# Altium integrated library Transistor.IntLib: 3457 symbols (part 51 of 78)
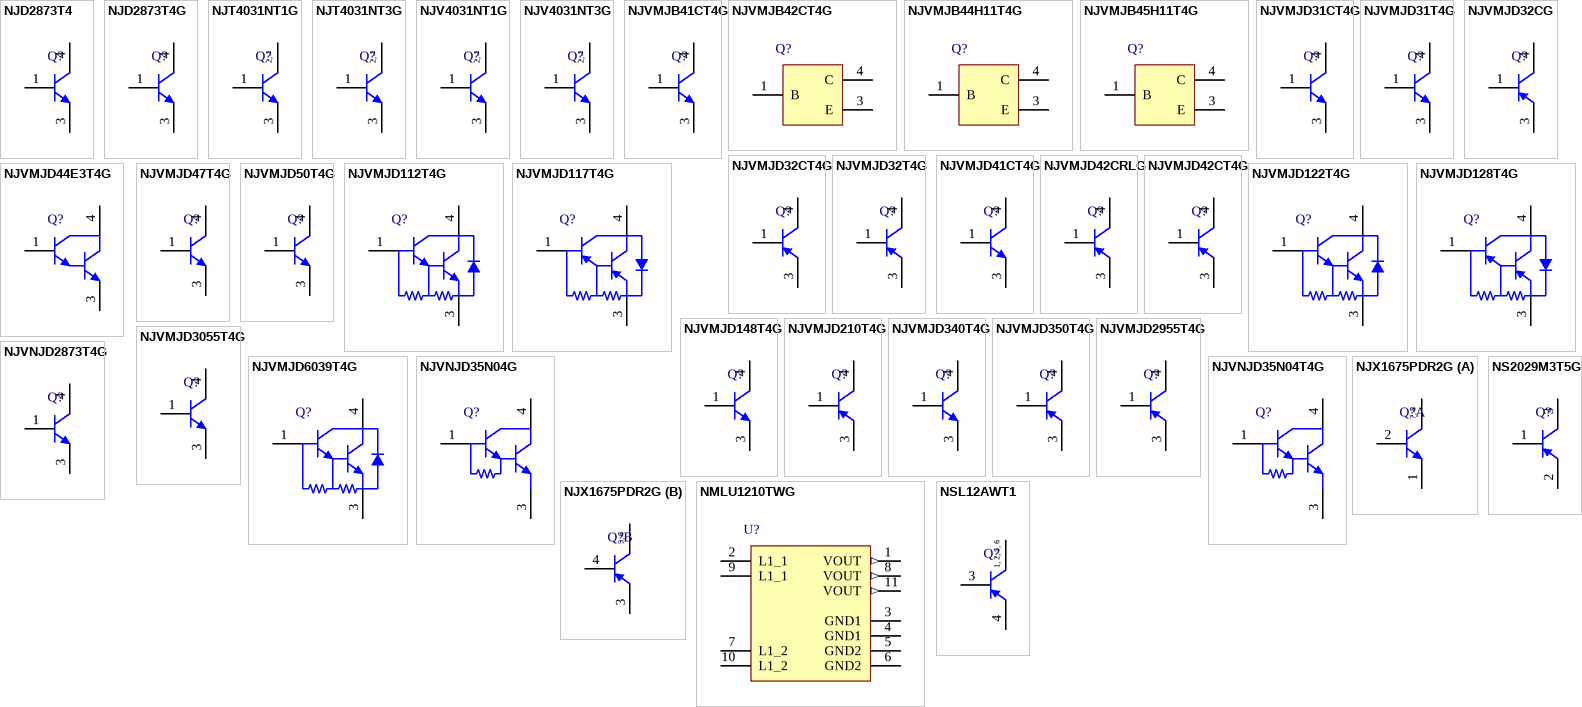
[diagram p144: symbols NJD2873T4 to NSL12AWT1]

## NJVMJD350T4G
designator Q?
High Voltage Power Transistor, 3-Pin DPAK, Pb-Free, Tape and Reel; Manufacturer: On Semiconductor; PartNumber: NJVMJD350T4G; fT Min (MHz): 10; IC Continuous (A): 0.5; Polarity: PNP; DatasheetVersion: Rev. 11; PackageVersion: Rev. E, 02/2014; PackageReference: DPAK-3-369C-01; PackageDescription: 3-Pin Flange Mount, Body 6.54 x 6.095 mm, Pitch 2.29 mm; Supplier 1: Digi-Key; Supplier Part Number 1: NJVMJD350T4G-ND; Supplier 2: Mouser; Supplier Part Number 2: 863-NJVMJD350T4G; Packing: Tape and Reel; RoHS: TRUE; Mounting Technology: Surface Mount; ComponentLink1Description: Manufacturer URL; ComponentLink1URL: http://www.onsemi.com/; ComponentLink2Description: Datasheet; ComponentLink2URL: http://www.onsemi.cn/pub_link/Collateral/MJD340-D.PDF; ComponentLink3Description: Package Specification; ComponentLink3URL: http://www.onsemi.cn/pub_link/Collateral/369C.PDF
footprint ONSC-DPAK-3-369C-01_V (DPAK, 3-Leads, Body 6.54x6.095mm, Pitch 2.29mm)
pins: 1 B, 3 E, 4 C

## NJVMJD2955T4G
designator Q?
Complementary Power Transistor, 3-Pin DPAK, Pb-Free, Tape and Reel; Manufacturer: On Semiconductor; PartNumber: NJVMJD2955T4G; fT Min (MHz): 2; IC Continuous (A): 10; Polarity: PNP; DatasheetVersion: Rev. 13; PackageVersion: Rev. E, 02/2014; PackageReference: DPAK-3-369C-01; PackageDescription: 3-Pin Flange Mount, Body 6.54 x 6.095 mm, Pitch 2.29 mm; Supplier 1: Digi-Key; Supplier Part Number 1: NJVMJD2955T4G-ND; Supplier 2: Mouser; Supplier Part Number 2: 863-NJVMJD2955T4G; Packing: Tape and Reel; RoHS: TRUE; Mounting Technology: Surface Mount; ComponentLink1Description: Manufacturer URL; ComponentLink1URL: http://www.onsemi.com/; ComponentLink2Description: Datasheet; ComponentLink2URL: http://www.onsemi.cn/pub_link/Collateral/MJD2955-D.PDF; ComponentLink3Description: Package Specification; ComponentLink3URL: http://www.onsemi.cn/pub_link/Collateral/369C.PDF
footprint ONSC-DPAK-3-369C-01_V (DPAK, 3-Leads, Body 6.54x6.095mm, Pitch 2.29mm)
pins: 1 B, 3 E, 4 C

## NJVMJD3055T4G
designator Q?
Complementary Power Transistor, 3-Pin DPAK, Pb-Free, Tape and Reel; Manufacturer: On Semiconductor; PartNumber: NJVMJD3055T4G; fT Min (MHz): 2; IC Continuous (A): 10; Polarity: NPN; DatasheetVersion: Rev. 13; PackageVersion: Rev. E, 02/2014; PackageReference: DPAK-3-369C-01; PackageDescription: 3-Pin Flange Mount, Body 6.54 x 6.095 mm, Pitch 2.29 mm; Supplier 1: Newark; Supplier Part Number 1: 97W6307; Supplier 2: Mouser; Supplier Part Number 2: 863-NJVMJD3055T4G; Packing: Tape and Reel; RoHS: TRUE; Mounting Technology: Surface Mount; ComponentLink1Description: Manufacturer URL; ComponentLink1URL: http://www.onsemi.com/; ComponentLink2Description: Datasheet; ComponentLink2URL: http://www.onsemi.cn/pub_link/Collateral/MJD2955-D.PDF; ComponentLink3Description: Package Specification; ComponentLink3URL: http://www.onsemi.cn/pub_link/Collateral/369C.PDF
footprint ONSC-DPAK-3-369C-01_V (DPAK, 3-Leads, Body 6.54x6.095mm, Pitch 2.29mm)
pins: 1 B, 3 E, 4 C

## NJVMJD6039T4G
designator Q?
Darlington Power Transistor, 3-Pin DPAK, Pb-Free, Tape and Reel; Manufacturer: On Semiconductor; PartNumber: NJVMJD6039T4G; Note: 0; IC Continuous (A): 4; Polarity: NPN; DatasheetVersion: Rev. 9; PackageVersion: Rev. E, 02/2014; PackageReference: DPAK-3-369C-01; PackageDescription: 3-Pin Flange Mount, Body 6.54 x 6.095 mm, Pitch 2.29 mm; Packing: Tape and Reel; RoHS: TRUE; Mounting Technology: Surface Mount; ComponentLink1Description: Manufacturer URL; ComponentLink1URL: http://www.onsemi.com/; ComponentLink2Description: Datasheet; ComponentLink2URL: http://www.onsemi.com/pub_link/Collateral/MJD6039-D.PDF; ComponentLink3Description: Package Specification; ComponentLink3URL: http://www.onsemi.cn/pub_link/Collateral/369C.PDF
footprint ONSC-DPAK-3-369C-01_V (DPAK, 3-Leads, Body 6.54x6.095mm, Pitch 2.29mm)
pins: 1 B, 3 E, 4 C

## NJVNJD35N04G
designator Q?
NPN Darlington Power Transistor, 3-Pin D2PAK, Pb-Free, Tube; Manufacturer: On Semiconductor; PartNumber: NJVNJD35N04G; IC Continuous (A): 4; DatasheetVersion: Rev. 5; PackageVersion: Rev. E, 02/2014; PackageReference: DPAK-3-369C-01; PackageDescription: 3-Pin Flange Mount, Body 6.54 x 6.095 mm, Pitch 2.29 mm; Supplier 1: Digi-Key; Supplier Part Number 1: NJVNJD35N04G-ND; Supplier 2: Mouser; Supplier Part Number 2: 863-NJVNJD35N04G; Packing: Tube; Polarity: NPN; RoHS: TRUE; Mounting Technology: Surface Mount; ComponentLink1Description: Manufacturer URL; ComponentLink1URL: http://www.onsemi.com/; ComponentLink2Description: Datasheet; ComponentLink2URL: http://www.onsemi.cn/pub_link/Collateral/NJD35N04-D.PDF; ComponentLink3Description: Package Specification; ComponentLink3URL: http://www.onsemi.cn/pub_link/Collateral/369C.PDF
footprint ONSC-DPAK-3-369C-01_V (DPAK, 3-Leads, Body 6.54x6.095mm, Pitch 2.29mm)
pins: 1 B, 3 E, 4 C

## NJVNJD35N04T4G
designator Q?
NPN Darlington Power Transistor, 3-Pin D2PAK, Pb-Free, Tape and Reel; Manufacturer: On Semiconductor; PartNumber: NJVNJD35N04T4G; IC Continuous (A): 4; DatasheetVersion: Rev. 5; PackageVersion: Rev. E, 02/2014; PackageReference: DPAK-3-369C-01; PackageDescription: 3-Pin Flange Mount, Body 6.54 x 6.095 mm, Pitch 2.29 mm; Supplier 1: Digi-Key; Supplier Part Number 1: NJVNJD35N04T4G-ND; Supplier 2: Mouser; Supplier Part Number 2: 863-NJVNJD35N04T4G; Packing: Tape and Reel; Polarity: NPN; RoHS: TRUE; Mounting Technology: Surface Mount; ComponentLink1Description: Manufacturer URL; ComponentLink1URL: http://www.onsemi.com/; ComponentLink2Description: Datasheet; ComponentLink2URL: http://www.onsemi.cn/pub_link/Collateral/NJD35N04-D.PDF; ComponentLink3Description: Package Specification; ComponentLink3URL: http://www.onsemi.cn/pub_link/Collateral/369C.PDF
footprint ONSC-DPAK-3-369C-01_V (DPAK, 3-Leads, Body 6.54x6.095mm, Pitch 2.29mm)
pins: 1 B, 3 E, 4 C

## NJVNJD2873T4G
designator Q?
Power Transistor, NPN Silicon for Surface Mount Application, 3-Pin DPAK, Pb-Free, Tape and Reel; Manufacturer: On Semiconductor; PartNumber: NJVNJD2873T4G; fT Min (MHz): 65; IC Continuous (A): 2; DatasheetVersion: Rev. 15; PackageVersion: Rev. E, 02/2014; PackageReference: DPAK-3-369C-01; PackageDescription: 3-Pin Flange Mount, Body 6.54 x 6.095 mm, Pitch 2.29 mm; Supplier 1: Digi-Key; Supplier Part Number 1: NJVNJD2873T4GOSTR-ND; Supplier 2: Digi-Key; Supplier Part Number 2: NJVNJD2873T4GOSCT-ND; Supplier 3: Digi-Key; Supplier Part Number 3: NJVNJD2873T4GOSDKR-ND; Supplier 4: Newark; Supplier Part Number 4: 76T6473; Supplier 5: Mouser; Supplier Part Number 5: 863-NJVNJD2873T4G; Packing: Tape and Reel; Polarity: NPN; RoHS: TRUE; Mounting Technology: Surface Mount; ComponentLink1Description: Manufacturer URL; ComponentLink1URL: http://www.onsemi.com/; ComponentLink2Description: Datasheet; ComponentLink2URL: http://www.onsemi.com/pub_link/Collateral/NJD2873T4-D.PDF; ComponentLink3Description: Package Specification; ComponentLink3URL: http://www.onsemi.cn/pub_link/Collateral/369C.PDF
footprint ONSC-DPAK-3-369C-01_V (DPAK, 3-Leads, Body 6.54x6.095mm, Pitch 2.29mm)
pins: 1 B, 3 E, 4 C

## NJX1675PDR2G
designator Q?
Complementary 30 V, 6 A, Transistor, 8-Pin SOIC, Pb-Free, Tape and Reel; Manufacturer: On Semiconductor; PartNumber: NJX1675PDR2G; fT Min (MHz): 100; IC Continuous (A): 3; DatasheetVersion: Rev. 0; PackageVersion: Rev. AK, 02/2011; PackageReference: SOIC-8-751-07; PackageDescription: 8-Pin Small Outline Integrated Circuit, Body 4.9 x 3.9 mm, Pitch 1.27 mm; Supplier 1: Digi-Key; Supplier Part Number 1: NJX1675PDR2G-ND; Supplier 2: Newark; Supplier Part Number 2: 79R3531; Supplier 3: Mouser; Supplier Part Number 3: 863-NJX1675PDR2G; Packing: Tape and Reel; Polarity: Complementary; RoHS: TRUE; Mounting Technology: Surface Mount; ComponentLink1Description: Manufacturer URL; ComponentLink1URL: http://www.onsemi.com/; ComponentLink2Description: Datasheet; ComponentLink2URL: http://www.onsemi.com/pub_link/Collateral/NJX1675P-D.PDF; ComponentLink3Description: Package Specification; ComponentLink3URL: http://www.onsemi.com/pub_link/Collateral/751-07.PDF
footprint ONSC-SOIC-8-751-07_V (SOIC, 8-Leads, Body 4.9x3.9mm, Pitch 1.27mm)
part A pins: 1 E, 2 B, 7 C, 8 C
part B pins: 3 E, 4 B, 5 C, 6 C
part A text: 7, 8
part B text: 5, 6

## NMLU1210TWG
designator U?
Full Bridge Rectifier, Dual 20 V N-Channel with Dual 3.2 A Schottky Barrier Diode, 8-Pin UDFN, Pb-Free, Tape and Reel; Manufacturer: On Semiconductor; PartNumber: NMLU1210TWG; Channel Polarity: N Channel; ID Max (A): 3.2; VGS(th) Max (V): 2.2; DatasheetVersion: Rev. 1; PackageVersion: Rev. A, 09/2011; PackageReference: UDFN-8-517BS; PackageDescription: 8-Pin Small Outline No-Lead, Body 4 x 4 mm, Pitch 0.8 mm; Configuration: Dual; Package Type: UDFN-8; Packing: Tape and Reel; RoHS: Pb-Free; Mounting Technology: Surface Mount; ComponentLink1Description: Manufacturer URL; ComponentLink1URL: http://www.onsemi.com/; ComponentLink2Description: Datasheet; ComponentLink2URL: http://www.onsemi.cn/pub_link/Collateral/NMLU1210-D.PDF; ComponentLink3Description: Package Specification; ComponentLink3URL: http://www.onsemi.cn/pub_link/Collateral/517BS.PDF
footprint ONSC-UDFN-8-517BS_V (SON, 8-Leads, Body 4x4mm, Pitch 0.8mm)
pins: 1 VOUT (out), 2 L1_1, 3 GND1 (power), 4 GND1 (power), 5 GND2 (power), 6 GND2 (power), 7 L1_2, 8 VOUT (out), 9 L1_1, 10 L1_2, 11 VOUT (out)

## NS2029M3T5G
designator Q?
PNP Silicon General Purpose Amplifier Transistor, 3-Pin SOT-723, Pb-Free, Tape and Reel; Manufacturer: On Semiconductor; PartNumber: NS2029M3T5G; IC Continuous (A): -0.15; DatasheetVersion: Rev. 3; PackageVersion: Rev. D, 08/2009; PackageReference: SOT-723-3-631AA-01; PackageDescription: 3-Pin Small Outline Transistor, Body 1.2 x 0.8 mm, Pitch 0.4 mm; Supplier 1: Digi-Key; Supplier Part Number 1: NS2029M3T5G-ND; Supplier 2: Newark; Supplier Part Number 2: 57M9901; Supplier 3: Mouser; Supplier Part Number 3: 863-NS2029M3T5G; Packing: Tape and Reel; Polarity: PNP; RoHS: TRUE; Mounting Technology: Surface Mount; ComponentLink1Description: Manufacturer URL; ComponentLink1URL: http://www.onsemi.com/; ComponentLink2Description: Datasheet; ComponentLink2URL: http://www.onsemi.com/pub_link/Collateral/NS2029M3-D.PDF; ComponentLink3Description: Package Specification; ComponentLink3URL: http://www.onsemi.com/pub_link/Collateral/631AA.PDF
footprint ONSC-SOT-723-3-631AA-01_V (SOT223, 3-Leads, Body 1.2x0.8mm, Pitch 0.4mm)
pins: 1 B, 2 E, 3 C

## NSL12AWT1
designator Q?
High Current Surface Mount PNP Silicon Low VCE(sat), Transistor for Battery Operated Application, 6-Pin SC70, Tape and Reel; Manufacturer: On Semiconductor; PartNumber: NSL12AWT1; IC Continuous (A): -2; DatasheetVersion: Rev. 3; PackageVersion: Rev. W; PackageReference: SC70-6-419B-02_W; PackageDescription: 6-Pin Small Outline Transistor, Body 2 x 1.25 mm, Pitch 0.65 mm; Supplier 1: Digi-Key; Supplier Part Number 1: NSL12AWT1OS-ND; Packing: Tape and Reel; Polarity: PNP; RoHS: FALSE; Mounting Technology: Surface Mount; ComponentLink1Description: Manufacturer URL; ComponentLink1URL: http://www.onsemi.com/; ComponentLink2Description: Datasheet; ComponentLink2URL: http://www.onsemi.com/pub_link/Collateral/NSL12AW-D.PDF; ComponentLink3Description: Package Specification; ComponentLink3URL: http://www.onsemi.com/pub_link/Collateral/SMF05C-D.PDF
footprint ONSC-SC70-6-419B-02_W_V (SOT23, 6-Leads, Body 2x1.25mm, Pitch 0.65mm)
pins: 1 C, 2 C, 3 B, 4 E, 5 C, 6 C
text: 1, 2, 5, 6

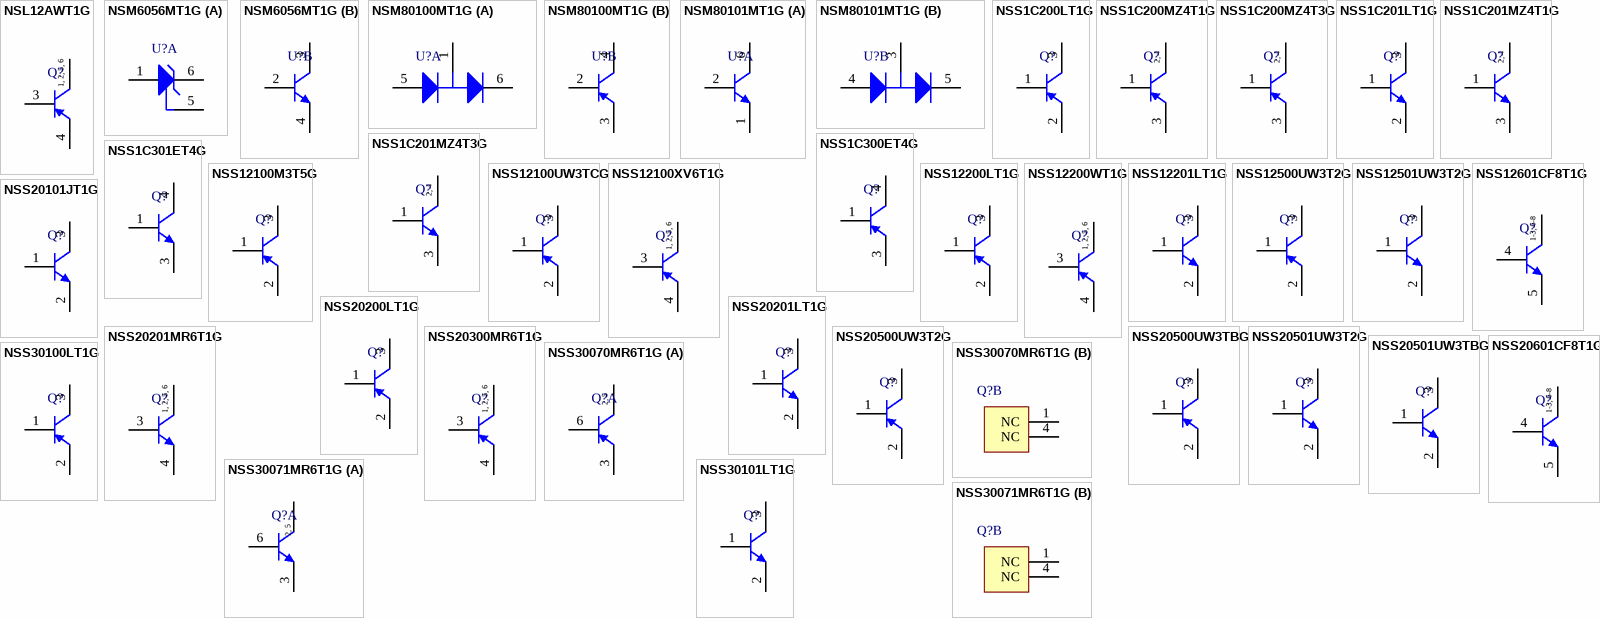
[diagram p60: symbols NSL12AWT1G to NSS30101LT1G]

## NSL12AWT1G
designator Q?
High Current Surface Mount PNP Silicon Low VCE(sat), Transistor for Battery Operated Application, 6-Pin SC70, Pb-Free, Tape and Reel; Manufacturer: On Semiconductor; PartNumber: NSL12AWT1G; IC Continuous (A): -2; DatasheetVersion: Rev. 3; PackageVersion: Rev. W; PackageReference: SC70-6-419B-02_W; PackageDescription: 6-Pin Small Outline Transistor, Body 2 x 1.25 mm, Pitch 0.65 mm; Supplier 1: Digi-Key; Supplier Part Number 1: NSL12AWT1GOSTR-ND; Supplier 2: Digi-Key; Supplier Part Number 2: NSL12AWT1GOSCT-ND; Supplier 3: Digi-Key; Supplier Part Number 3: NSL12AWT1GOSDKR-ND; Supplier 4: Newark; Supplier Part Number 4: 45J2076; Supplier 5: Newark; Supplier Part Number 5: 10N9563; Supplier 6: Mouser; Supplier Part Number 6: 863-NSL12AWT1G; Packing: Tape and Reel; Polarity: PNP; RoHS: TRUE; Mounting Technology: Surface Mount; ComponentLink1Description: Manufacturer URL; ComponentLink1URL: http://www.onsemi.com/; ComponentLink2Description: Datasheet; ComponentLink2URL: http://www.onsemi.com/pub_link/Collateral/NSL12AW-D.PDF; ComponentLink3Description: Package Specification; ComponentLink3URL: http://www.onsemi.com/pub_link/Collateral/SMF05C-D.PDF
footprint ONSC-SC70-6-419B-02_W_V (SOT23, 6-Leads, Body 2x1.25mm, Pitch 0.65mm)
pins: 1 C, 2 C, 3 B, 4 E, 5 C, 6 C
text: 1, 2, 5, 6

## NSM6056MT1G
designator U?
NPN Transistor with Zener Diode, 6-Pin SC-74, Pb-Free, Tape and Reel; Manufacturer: On Semiconductor; PartNumber: NSM6056MT1G; Note: 0; fT Min (MHz): 250; IC Continuous (A): 0.6; DatasheetVersion: Rev. 0; PackageVersion: Rev. N, 06/2012; PackageReference: SC-74-6-318F-05; PackageDescription: 6-Pin Small Outline Transistor, Body 3 x 1.5 mm, Pitch 0.95 mm; Packing: Tape and Reel; Polarity: NPN; RoHS: TRUE; Mounting Technology: Surface Mount; ComponentLink1Description: Manufacturer URL; ComponentLink1URL: http://www.onsemi.com/; ComponentLink2Description: Datasheet; ComponentLink2URL: http://www.onsemi.com/pub_link/Collateral/NSM6056M-D.PDF; ComponentLink3Description: Package Specification; ComponentLink3URL: http://www.onsemi.com/pub_link/Collateral/318F-05.PDF
footprint ONSC-SC-74-6-318F-05_V (SOT23, 6-Leads, Body 3x1.5mm, Pitch 0.95mm)
part A pins: 1 A, 5 NC, 6 K
part B pins: 2 B, 3 C, 4 E

## NSM80100MT1G
designator U?
PNP Transistor with Dual Series Switching Diodes, 6-Pin SC-74, Pb-Free, Tape and Reel; Manufacturer: On Semiconductor; PartNumber: NSM80100MT1G; fT Min (MHz): 150; IC Continuous (A): -0.5; DatasheetVersion: Rev. 2; PackageVersion: Rev. N, 06/2012; PackageReference: SC-74-6-318F-05; PackageDescription: 6-Pin Small Outline Transistor, Body 3 x 1.5 mm, Pitch 0.95 mm; Supplier 1: Digi-Key; Supplier Part Number 1: NSM80100MT1G-ND; Supplier 2: Mouser; Supplier Part Number 2: 863-NSM80100MT1G; Packing: Tape and Reel; Polarity: PNP; RoHS: TRUE; Mounting Technology: Surface Mount; ComponentLink1Description: Manufacturer URL; ComponentLink1URL: http://www.onsemi.com/; ComponentLink2Description: Datasheet; ComponentLink2URL: http://www.onsemi.com/pub_link/Collateral/NSM80100M-D.PDF; ComponentLink3Description: Package Specification; ComponentLink3URL: http://www.onsemi.com/pub_link/Collateral/318F-05.PDF
footprint ONSC-SC-74-6-318F-05_V (SOT23, 6-Leads, Body 3x1.5mm, Pitch 0.95mm)
part A pins: 1 K/A, 5 A, 6 K
part B pins: 2 B, 3 E, 4 C

## NSM80101MT1G
designator U?
NPN Transistor with Dual Series Switching Diodes, 6-Pin SC-74, Pb-Free, Tape and Reel; Manufacturer: On Semiconductor; PartNumber: NSM80101MT1G; fT Min (MHz): 150; IC Continuous (A): 0.5; DatasheetVersion: Rev. 2; PackageVersion: Rev. N, 06/2012; PackageReference: SC-74-6-318F-05; PackageDescription: 6-Pin Small Outline Transistor, Body 3 x 1.5 mm, Pitch 0.95 mm; Supplier 1: Digi-Key; Supplier Part Number 1: NSM80101MT1G-ND; Supplier 2: Mouser; Supplier Part Number 2: 863-NSM80101MT1G; Packing: Tape and Reel; Polarity: NPN; RoHS: TRUE; Mounting Technology: Surface Mount; ComponentLink1Description: Manufacturer URL; ComponentLink1URL: http://www.onsemi.com/; ComponentLink2Description: Datasheet; ComponentLink2URL: http://www.onsemi.com/pub_link/Collateral/NSM80101M-D.PDF; ComponentLink3Description: Package Specification; ComponentLink3URL: http://www.onsemi.com/pub_link/Collateral/318F-05.PDF
footprint ONSC-SC-74-6-318F-05_V (SOT23, 6-Leads, Body 3x1.5mm, Pitch 0.95mm)
part A pins: 1 E, 2 B, 6 C
part B pins: 3 K/A, 4 A, 5 K

## NSS1C200LT1G
designator Q?
100 V, 3 A, Low VCE(sat), PNP Transistor, 3-Pin SOT-23, Pb-Free, Tape and Reel; Manufacturer: On Semiconductor; PartNumber: NSS1C200LT1G; IC Continuous (A): -2; DatasheetVersion: Rev. 2; PackageVersion: Rev. AP, 11/2009; PackageReference: SOT-23-3-318-08; PackageDescription: 3-Pin Small Outline Transistor, Body 2.92 x 1.3 mm, Pitch 0.95 mm; Supplier 1: Digi-Key; Supplier Part Number 1: NSS1C200LT1GOSTR-ND; Supplier 2: Digi-Key; Supplier Part Number 2: NSS1C200LT1GOSCT-ND; Supplier 3: Digi-Key; Supplier Part Number 3: NSS1C200LT1GOSDKR-ND; Supplier 4: Mouser; Supplier Part Number 4: 863-NSS1C200LT1G; Packing: Tape and Reel; Polarity: PNP; RoHS: TRUE; Mounting Technology: Surface Mount; ComponentLink1Description: Manufacturer URL; ComponentLink1URL: http://www.onsemi.com/; ComponentLink2Description: Datasheet; ComponentLink2URL: http://www.onsemi.cn/pub_link/Collateral/NSS1C200L-D.PDF; ComponentLink3Description: Package Specification; ComponentLink3URL: http://www.onsemi.cn/pub_link/Collateral/318-08.PDF
footprint ONSC-SOT-23-3-318-08_V (SOT23, 3-Leads, Body 2.92x1.3mm, Pitch 0.95mm)
pins: 1 B, 2 E, 3 C

## NSS1C200MZ4T1G
designator Q?
100 V, 2 A, Low VCE(sat), PNP Transistor, 4-Pin SOT-223, Pb-Free, Tape and Reel; Manufacturer: On Semiconductor; PartNumber: NSS1C200MZ4T1G; IC Continuous (A): 2; DatasheetVersion: Rev. 5; PackageVersion: Rev. N, 08/2009; PackageReference: SOT-223-4-318E-04; PackageDescription: 4-Pin Small Outline Transistor, Body 6.5 x 3.5 mm, Pitch 2.3 mm; Supplier 1: Digi-Key; Supplier Part Number 1: NSS1C200MZ4T1GOSTR-ND; Supplier 2: Digi-Key; Supplier Part Number 2: NSS1C200MZ4T1GOSCT-ND; Supplier 3: Digi-Key; Supplier Part Number 3: NSS1C200MZ4T1GOSDKR-ND; Supplier 4: Newark; Supplier Part Number 4: 01P0143; Supplier 5: Mouser; Supplier Part Number 5: 863-NSS1C200MZ4T1G; Packing: Tape and Reel; Polarity: PNP; RoHS: TRUE; Mounting Technology: Surface Mount; ComponentLink1Description: Manufacturer URL; ComponentLink1URL: http://www.onsemi.com/; ComponentLink2Description: Datasheet; ComponentLink2URL: http://www.onsemi.cn/pub_link/Collateral/NSS1C200MZ4-D.PDF; ComponentLink3Description: Package Specification; ComponentLink3URL: http://www.onsemi.com/pub_link/Collateral/318E-04.PDF
footprint ONSC-SOT-223-4-318E-04_V (SOT223, 4-Leads, Body 6.5x3.5mm, Pitch 2.3mm)
pins: 1 B, 2 C, 3 E, 4 C
text: 2, 4

## NSS1C200MZ4T3G
designator Q?
100 V, 2 A, Low VCE(sat), PNP Transistor, 4-Pin SOT-223, Pb-Free, Tape and Reel; Manufacturer: On Semiconductor; PartNumber: NSS1C200MZ4T3G; IC Continuous (A): 2; DatasheetVersion: Rev. 5; PackageVersion: Rev. N, 08/2009; PackageReference: SOT-223-4-318E-04; PackageDescription: 4-Pin Small Outline Transistor, Body 6.5 x 3.5 mm, Pitch 2.3 mm; Supplier 1: Digi-Key; Supplier Part Number 1: NSS1C200MZ4T3G-ND; Supplier 2: Newark; Supplier Part Number 2: 01P5105; Supplier 3: Mouser; Supplier Part Number 3: 863-NSS1C200MZ4T3G; Packing: Tape and Reel; Polarity: PNP; RoHS: TRUE; Mounting Technology: Surface Mount; ComponentLink1Description: Manufacturer URL; ComponentLink1URL: http://www.onsemi.com/; ComponentLink2Description: Datasheet; ComponentLink2URL: http://www.onsemi.cn/pub_link/Collateral/NSS1C200MZ4-D.PDF; ComponentLink3Description: Package Specification; ComponentLink3URL: http://www.onsemi.com/pub_link/Collateral/318E-04.PDF
footprint ONSC-SOT-223-4-318E-04_V (SOT223, 4-Leads, Body 6.5x3.5mm, Pitch 2.3mm)
pins: 1 B, 2 C, 3 E, 4 C
text: 2, 4

## NSS1C201LT1G
designator Q?
100 V, 3 A, Low VCE(sat), NPN Transistor, 3-Pin SOT-23, Pb-Free, Tape and Reel; Manufacturer: On Semiconductor; PartNumber: NSS1C201LT1G; IC Continuous (A): 2; DatasheetVersion: Rev. 3; PackageVersion: Rev. AP, 11/2009; PackageReference: SOT-23-3-318-08; PackageDescription: 3-Pin Small Outline Transistor, Body 2.92 x 1.3 mm, Pitch 0.95 mm; Supplier 1: Digi-Key; Supplier Part Number 1: NSS1C201LT1GOSTR-ND; Supplier 2: Digi-Key; Supplier Part Number 2: NSS1C201LT1GOSCT-ND; Supplier 3: Digi-Key; Supplier Part Number 3: NSS1C201LT1GOSDKR-ND; Supplier 4: Newark; Supplier Part Number 4: 13P5595; Supplier 5: Mouser; Supplier Part Number 5: 863-NSS1C201LT1G; Packing: Tape and Reel; Polarity: NPN; RoHS: TRUE; Mounting Technology: Surface Mount; ComponentLink1Description: Manufacturer URL; ComponentLink1URL: http://www.onsemi.com/; ComponentLink2Description: Datasheet; ComponentLink2URL: http://www.onsemi.cn/pub_link/Collateral/NSS1C201L.PDF; ComponentLink3Description: Package Specification; ComponentLink3URL: http://www.onsemi.cn/pub_link/Collateral/318-08.PDF
footprint ONSC-SOT-23-3-318-08_V (SOT23, 3-Leads, Body 2.92x1.3mm, Pitch 0.95mm)
pins: 1 B, 2 E, 3 C

## NSS1C201MZ4T1G
designator Q?
100 V, 2 A, Low VCE(sat), NPN Transistor, 4-Pin SOT-223, Pb-Free, Tape and Reel; Manufacturer: On Semiconductor; PartNumber: NSS1C201MZ4T1G; IC Continuous (A): 2; DatasheetVersion: Rev. 4; PackageVersion: Rev. N, 08/2009; PackageReference: SOT-223-4-318E-04; PackageDescription: 4-Pin Small Outline Transistor, Body 6.5 x 3.5 mm, Pitch 2.3 mm; Supplier 1: Digi-Key; Supplier Part Number 1: NSS1C201MZ4T1GOSTR-ND; Supplier 2: Digi-Key; Supplier Part Number 2: NSS1C201MZ4T1GOSCT-ND; Supplier 3: Digi-Key; Supplier Part Number 3: NSS1C201MZ4T1GOSDKR-ND; Supplier 4: Newark; Supplier Part Number 4: 46P8326; Supplier 5: Mouser; Supplier Part Number 5: 863-NSS1C201MZ4T1G; Packing: Tape and Reel; Polarity: NPN; RoHS: TRUE; Mounting Technology: Surface Mount; ComponentLink1Description: Manufacturer URL; ComponentLink1URL: http://www.onsemi.com/; ComponentLink2Description: Datasheet; ComponentLink2URL: http://www.onsemi.cn/pub_link/Collateral/NSS1C201MZ4-D.PDF; ComponentLink3Description: Package Specification; ComponentLink3URL: http://www.onsemi.com/pub_link/Collateral/318E-04.PDF
footprint ONSC-SOT-223-4-318E-04_V (SOT223, 4-Leads, Body 6.5x3.5mm, Pitch 2.3mm)
pins: 1 B, 2 C, 3 E, 4 C
text: 2, 4

## NSS1C201MZ4T3G
designator Q?
100 V, 2 A, Low VCE(sat), NPN Transistor, 4-Pin SOT-223, Pb-Free, Tape and Reel; Manufacturer: On Semiconductor; PartNumber: NSS1C201MZ4T3G; IC Continuous (A): 2; DatasheetVersion: Rev. 4; PackageVersion: Rev. N, 08/2009; PackageReference: SOT-223-4-318E-04; PackageDescription: 4-Pin Small Outline Transistor, Body 6.5 x 3.5 mm, Pitch 2.3 mm; Supplier 1: Digi-Key; Supplier Part Number 1: NSS1C201MZ4T3G-ND; Supplier 2: Mouser; Supplier Part Number 2: 863-NSS1C201MZ4T3G; Packing: Tape and Reel; Polarity: NPN; RoHS: TRUE; Mounting Technology: Surface Mount; ComponentLink1Description: Manufacturer URL; ComponentLink1URL: http://www.onsemi.com/; ComponentLink2Description: Datasheet; ComponentLink2URL: http://www.onsemi.cn/pub_link/Collateral/NSS1C201MZ4-D.PDF; ComponentLink3Description: Package Specification; ComponentLink3URL: http://www.onsemi.com/pub_link/Collateral/318E-04.PDF
footprint ONSC-SOT-223-4-318E-04_V (SOT223, 4-Leads, Body 6.5x3.5mm, Pitch 2.3mm)
pins: 1 B, 2 C, 3 E, 4 C
text: 2, 4

## NSS1C300ET4G
designator Q?
100 V, 3 A, Low VCE(sat), PNP Transistor, 3-Pin DPAK, Pb-Free, Tape and Reel; Manufacturer: On Semiconductor; PartNumber: NSS1C300ET4G; Note: 0; IC Continuous (A): 3; DatasheetVersion: Rev. 6; PackageVersion: Rev. E, 02/2014; PackageReference: DPAK-3-369C-01; PackageDescription: 3-Pin Flange Mount, Body 6.54 x 6.095 mm, Pitch 2.29 mm; Packing: Tape and Reel; Polarity: PNP; RoHS: TRUE; Mounting Technology: Surface Mount; ComponentLink1Description: Manufacturer URL; ComponentLink1URL: http://www.onsemi.com/; ComponentLink2Description: Datasheet; ComponentLink2URL: http://www.onsemi.cn/pub_link/Collateral/NSS1C300E-D.PDF; ComponentLink3Description: Package Specification; ComponentLink3URL: http://www.onsemi.cn/pub_link/Collateral/369C.PDF
footprint ONSC-DPAK-3-369C-01_V (DPAK, 3-Leads, Body 6.54x6.095mm, Pitch 2.29mm)
pins: 1 B, 3 E, 4 C

## NSS1C301ET4G
designator Q?
100 V, 3 A, Low VCE(sat), NPN Transistor, 3-Pin DPAK, Pb-Free, Tape and Reel; Manufacturer: On Semiconductor; PartNumber: NSS1C301ET4G; IC Continuous (A): 3; DatasheetVersion: Rev. 3; PackageVersion: Rev. E, 02/2014; PackageReference: DPAK-3-369C-01; PackageDescription: 3-Pin Flange Mount, Body 6.54 x 6.095 mm, Pitch 2.29 mm; Supplier 1: Newark; Supplier Part Number 1: 63W4908; Packing: Tape and Reel; Polarity: NPN; RoHS: TRUE; Mounting Technology: Surface Mount; ComponentLink1Description: Manufacturer URL; ComponentLink1URL: http://www.onsemi.com/; ComponentLink2Description: Datasheet; ComponentLink2URL: http://www.onsemi.cn/pub_link/Collateral/NSS1C301E-D.PDF; ComponentLink3Description: Package Specification; ComponentLink3URL: http://www.onsemi.cn/pub_link/Collateral/369C.PDF
footprint ONSC-DPAK-3-369C-01_V (DPAK, 3-Leads, Body 6.54x6.095mm, Pitch 2.29mm)
pins: 1 B, 3 E, 4 C

## NSS12100M3T5G
designator Q?
12 V, 1 A, Low VCE(sat), PNP Transistor, 3-Pin SOT-723, Pb-Free, Tape and Reel; Manufacturer: On Semiconductor; PartNumber: NSS12100M3T5G; IC Continuous (A): -1; DatasheetVersion: Rev. 0; PackageVersion: Rev. C, 08/2006; PackageReference: SOT-723-3-631AA-01_C; PackageDescription: 3-Pin SOT223, Body 0.8 x 1.2 mm, Pitch 0.4 mm; Supplier 1: Digi-Key; Supplier Part Number 1: NSS12100M3T5GOSTR-ND; Supplier 2: Digi-Key; Supplier Part Number 2: NSS12100M3T5GOSCT-ND; Supplier 3: Digi-Key; Supplier Part Number 3: NSS12100M3T5GOSDKR-ND; Supplier 4: Newark; Supplier Part Number 4: 57M9898; Supplier 5: Mouser; Supplier Part Number 5: 863-NSS12100M3T5G; Packing: Tape and Reel; Polarity: PNP; RoHS: TRUE; Mounting Technology: Surface Mount; ComponentLink1Description: Manufacturer URL; ComponentLink1URL: http://www.onsemi.com/; ComponentLink2Description: Datasheet; ComponentLink2URL: http://www.onsemi.cn/pub_link/Collateral/NSS12100M3-D.PDF; ComponentLink3Description: Package Specification; ComponentLink3URL: http://www.onsemi.cn/pub_link/Collateral/BAT54M3-D.PDF
footprint ONSC-SOT-723-3-631AA-01_C_V (SOT23, 3-Leads, Body 1.25x0.85mm, Pitch 0.4mm)
pins: 1 B, 2 E, 3 C

## NSS12100UW3TCG
designator Q?
12 V, 1 A, Low VCE(sat), PNP Transistor, 3-Pin WDFN, Pb-Free, Tape and Reel; Manufacturer: On Semiconductor; PartNumber: NSS12100UW3TCG; fT Min (MHz): 200; IC Continuous (A): -1; DatasheetVersion: Rev. 0; PackageVersion: Rev. O, 09/2005; PackageReference: WDFN-3-506AU-01; PackageDescription: 3-Pin Small Outline No-Lead, Body 2 x 2 mm, Pitch 1.3 mm; Supplier 1: Digi-Key; Supplier Part Number 1: NSS12100UW3TCGOSTR-ND; Supplier 2: Digi-Key; Supplier Part Number 2: NSS12100UW3TCGOSCT-ND; Supplier 3: Digi-Key; Supplier Part Number 3: NSS12100UW3TCGOSDKR-ND; Supplier 4: Newark; Supplier Part Number 4: 01P5106; Supplier 5: Mouser; Supplier Part Number 5: 863-NSS12100UW3TCG; Packing: Tape and Reel; Polarity: PNP; RoHS: TRUE; Mounting Technology: Surface Mount; ComponentLink1Description: Manufacturer URL; ComponentLink1URL: http://www.onsemi.com/; ComponentLink2Description: Datasheet; ComponentLink2URL: http://www.onsemi.cn/pub_link/Collateral/NSS12100UW3-D.PDF; ComponentLink3Description: Package Specification; ComponentLink3URL: http://www.onsemi.com/pub_link/Collateral/506AU.PDF
footprint ONSC-WDFN-3-506AU-01_V (WDFN, 3-Leads, Body 2 x 2mm, Pitch 1.3mm)
pins: 1 B, 2 E, 3 C

## NSS12100XV6T1G
designator Q?
12 V, 1 A, Low VCE(sat), PNP Transistor, 6-Pin SOT-563, Pb-Free, Tape and Reel; Manufacturer: On Semiconductor; PartNumber: NSS12100XV6T1G; IC Continuous (A): -1; DatasheetVersion: Rev. 0; PackageVersion: Rev. F, 04/2005; PackageReference: SOT-563-6-463A-01; PackageDescription: 6-Pin Small Outline Transistor, Body 1.6 x 1.2 mm, Pitch 0.5 mm; Supplier 1: Digi-Key; Supplier Part Number 1: NSS12100XV6T1GOSTR-ND; Supplier 2: Digi-Key; Supplier Part Number 2: NSS12100XV6T1GOSCT-ND; Supplier 3: Digi-Key; Supplier Part Number 3: NSS12100XV6T1GOSDKR-ND; Supplier 4: Farnell; Supplier Part Number 4: 2317587; Supplier 5: Farnell; Supplier Part Number 5: 2369154; Supplier 6: Newark; Supplier Part Number 6: 09R9614; Supplier 7: Newark; Supplier Part Number 7: 27M2679; Supplier 8: Mouser; Supplier Part Number 8: 863-NSS12100XV6T1G; Packing: Tape and Reel; Polarity: PNP; RoHS: TRUE; Mounting Technology: Surface Mount; ComponentLink1Description: Manufacturer URL; ComponentLink1URL: http://www.onsemi.com/; ComponentLink2Description: Datasheet; ComponentLink2URL: http://www.onsemi.cn/pub_link/Collateral/NSS12100XV6-D.PDF; ComponentLink3Description: Package Specification; ComponentLink3URL: http://www.onsemi.cn/pub_link/Collateral/463A-01.PDF
footprint ONSC-SOT-563-6-463A-01_V (SOT23, 6-Leads, Body 1.6x1.2mm, Pitch 0.5mm)
pins: 1 C, 2 C, 3 B, 4 E, 5 C, 6 C
text: 1, 2, 5, 6

## NSS12200LT1G
designator Q?
12 V, 4 A, Low VCE(sat), PNP Transistor, 3-Pin SOT-23, Pb-Free, Tape and Reel; Manufacturer: On Semiconductor; PartNumber: NSS12200LT1G; fT Min (MHz): 100; IC Continuous (A): -2; DatasheetVersion: Rev. 3; PackageVersion: Rev. AP, 11/2009; PackageReference: SOT-23-3-318-08; PackageDescription: 3-Pin Small Outline Transistor, Body 2.92 x 1.3 mm, Pitch 0.95 mm; Supplier 1: Digi-Key; Supplier Part Number 1: NSS12200LT1GOSTR-ND; Supplier 2: Digi-Key; Supplier Part Number 2: NSS12200LT1GOSCT-ND; Supplier 3: Digi-Key; Supplier Part Number 3: NSS12200LT1GOSDKR-ND; Supplier 4: Newark; Supplier Part Number 4: 27M2680; Supplier 5: Mouser; Supplier Part Number 5: 863-NSS12200LT1G; Packing: Tape and Reel; Polarity: PNP; RoHS: TRUE; Mounting Technology: Surface Mount; ComponentLink1Description: Manufacturer URL; ComponentLink1URL: http://www.onsemi.com/; ComponentLink2Description: Datasheet; ComponentLink2URL: http://www.onsemi.cn/pub_link/Collateral/NSS12200L-D.PDF; ComponentLink3Description: Package Specification; ComponentLink3URL: http://www.onsemi.cn/pub_link/Collateral/318-08.PDF
footprint ONSC-SOT-23-3-318-08_V (SOT23, 3-Leads, Body 2.92x1.3mm, Pitch 0.95mm)
pins: 1 B, 2 E, 3 C

## NSS12200WT1G
designator Q?
12 V, 2 A, Low VCE(sat), PNP Transistor, 6-Pin SOT-363, Pb-Free, Tape and Reel; Manufacturer: On Semiconductor; PartNumber: NSS12200WT1G; IC Continuous (A): -2; DatasheetVersion: Rev. 2; PackageVersion: Rev. W, 01/2006; PackageReference: SOT-363-6-419B-02_W; PackageDescription: 6-Pin Small Outline Transistor, Body 2 x 1.25 mm, Pitch 0.65 mm; Supplier 1: Digi-Key; Supplier Part Number 1: NSS12200WT1GOSTR-ND; Supplier 2: Digi-Key; Supplier Part Number 2: NSS12200WT1GOSCT-ND; Supplier 3: Digi-Key; Supplier Part Number 3: NSS12200WT1GOSDKR-ND; Supplier 4: Mouser; Supplier Part Number 4: 863-NSS12200WT1G; Packing: Tape and Reel; Polarity: PNP; RoHS: TRUE; Mounting Technology: Surface Mount; ComponentLink1Description: Manufacturer URL; ComponentLink1URL: http://www.onsemi.com/; ComponentLink2Description: Datasheet; ComponentLink2URL: http://www.onsemi.cn/pub_link/Collateral/NSS12200WT1G-D.PDF; ComponentLink3Description: Package Specification; ComponentLink3URL: http://www.onsemi.com/pub_link/Collateral/NTJD4001N-D.PDF
footprint ONSC-SOT-363-6-419B-02_W_V (SOT23, 6-Leads, Body 2x1.25mm, Pitch 0.65mm)
pins: 1 C, 2 C, 3 B, 4 E, 5 C, 6 C
text: 1, 2, 5, 6

## NSS12201LT1G
designator Q?
12 V, 4 A, Low VCE(sat), NPN Transistor, 3-Pin SOT-23, Pb-Free, Tape and Reel; Manufacturer: On Semiconductor; PartNumber: NSS12201LT1G; fT Min (MHz): 150; IC Continuous (A): 2; DatasheetVersion: Rev. 5; PackageVersion: Rev. AP, 11/2009; PackageReference: SOT-23-3-318-08; PackageDescription: 3-Pin Small Outline Transistor, Body 2.92 x 1.3 mm, Pitch 0.95 mm; Supplier 1: Digi-Key; Supplier Part Number 1: NSS12201LT1GOSTR-ND; Supplier 2: Digi-Key; Supplier Part Number 2: NSS12201LT1GOSCT-ND; Supplier 3: Digi-Key; Supplier Part Number 3: NSS12201LT1GOSDKR-ND; Supplier 4: Farnell; Supplier Part Number 4: 1468035; Supplier 5: Newark; Supplier Part Number 5: 50M4390; Supplier 6: Mouser; Supplier Part Number 6: 863-NSS12201LT1G; Packing: Tape and Reel; Polarity: NPN; RoHS: TRUE; Mounting Technology: Surface Mount; ComponentLink1Description: Manufacturer URL; ComponentLink1URL: http://www.onsemi.com/; ComponentLink2Description: Datasheet; ComponentLink2URL: http://www.onsemi.cn/pub_link/Collateral/NSS12201L-D.PDF; ComponentLink3Description: Package Specification; ComponentLink3URL: http://www.onsemi.cn/pub_link/Collateral/318-08.PDF
footprint ONSC-SOT-23-3-318-08_V (SOT23, 3-Leads, Body 2.92x1.3mm, Pitch 0.95mm)
pins: 1 B, 2 E, 3 C

## NSS12500UW3T2G
designator Q?
12 V, 8 A, Low VCE(sat), PNP Transistor, 3-Pin WDFN, Pb-Free, Tape and Reel; Manufacturer: On Semiconductor; PartNumber: NSS12500UW3T2G; fT Min (MHz): 100; IC Continuous (A): -5; DatasheetVersion: Rev. 1; PackageVersion: Rev. O, 09/2005; PackageReference: WDFN-3-506AU-01; PackageDescription: 3-Pin Small Outline No-Lead, Body 2 x 2 mm, Pitch 1.3 mm; Supplier 1: Digi-Key; Supplier Part Number 1: NSS12500UW3T2GOSTR-ND; Supplier 2: Digi-Key; Supplier Part Number 2: NSS12500UW3T2GOSCT-ND; Supplier 3: Digi-Key; Supplier Part Number 3: NSS12500UW3T2GOSDKR-ND; Supplier 4: Newark; Supplier Part Number 4: 27M2681; Supplier 5: Mouser; Supplier Part Number 5: 863-NSS12500UW3T2G; Packing: Tape and Reel; Polarity: PNP; RoHS: TRUE; Mounting Technology: Surface Mount; ComponentLink1Description: Manufacturer URL; ComponentLink1URL: http://www.onsemi.com/; ComponentLink2Description: Datasheet; ComponentLink2URL: http://www.onsemi.cn/pub_link/Collateral/NSS12500UW3.PDF; ComponentLink3Description: Package Specification; ComponentLink3URL: http://www.onsemi.com/pub_link/Collateral/506AU.PDF
footprint ONSC-WDFN-3-506AU-01_V (WDFN, 3-Leads, Body 2 x 2mm, Pitch 1.3mm)
pins: 1 B, 2 E, 3 C

## NSS12501UW3T2G
designator Q?
12 V, 7 A, Low VCE(sat), NPN Transistor, 3-Pin WDFN, Pb-Free, Tape and Reel; Manufacturer: On Semiconductor; PartNumber: NSS12501UW3T2G; fT Min (MHz): 150; IC Continuous (A): 5; DatasheetVersion: Rev. 2; PackageVersion: Rev. O, 09/2005; PackageReference: WDFN-3-506AU-01; PackageDescription: 3-Pin Small Outline No-Lead, Body 2 x 2 mm, Pitch 1.3 mm; Supplier 1: Digi-Key; Supplier Part Number 1: NSS12501UW3T2GOSTR-ND; Supplier 2: Digi-Key; Supplier Part Number 2: NSS12501UW3T2GOSCT-ND; Supplier 3: Digi-Key; Supplier Part Number 3: NSS12501UW3T2GOSDKR-ND; Supplier 4: Mouser; Supplier Part Number 4: 863-NSS12501UW3T2G; Packing: Tape and Reel; Polarity: NPN; RoHS: TRUE; Mounting Technology: Surface Mount; ComponentLink1Description: Manufacturer URL; ComponentLink1URL: http://www.onsemi.com/; ComponentLink2Description: Datasheet; ComponentLink2URL: http://www.onsemi.cn/pub_link/Collateral/NSS12501UW3-D.PDF; ComponentLink3Description: Package Specification; ComponentLink3URL: http://www.onsemi.com/pub_link/Collateral/506AU.PDF
footprint ONSC-WDFN-3-506AU-01_V (WDFN, 3-Leads, Body 2 x 2mm, Pitch 1.3mm)
pins: 1 B, 2 E, 3 C

## NSS12601CF8T1G
designator Q?
12 V, 8 A, Low VCE(sat), NPN Transistor, 8-Pin CHIPFET, Pb-Free, Tape and Reel; Manufacturer: On Semiconductor; PartNumber: NSS12601CF8T1G; fT Min (MHz): 140; IC Continuous (A): 6; DatasheetVersion: Rev. 1; PackageVersion: Rev. H, 10/2006; PackageReference: CHIPFET-8-1206A-03; PackageDescription: 8-Pin ChipFET, Body 3.025 x 1.625 mm, Pitch 0.65 mm; Supplier 1: Digi-Key; Supplier Part Number 1: NSS12601CF8T1GOSTR-ND; Supplier 2: Digi-Key; Supplier Part Number 2: NSS12601CF8T1GOSCT-ND; Supplier 3: Digi-Key; Supplier Part Number 3: NSS12601CF8T1GOSDKR-ND; Supplier 4: Newark; Supplier Part Number 4: 50M4392; Supplier 5: Mouser; Supplier Part Number 5: 863-NSS12601CF8T1G; Packing: Tape and Reel; Polarity: NPN; RoHS: TRUE; Mounting Technology: Surface Mount; ComponentLink1Description: Manufacturer URL; ComponentLink1URL: http://www.onsemi.com/; ComponentLink2Description: Datasheet; ComponentLink2URL: http://www.onsemi.cn/pub_link/Collateral/NSS12601CF8-D.PDF; ComponentLink3Description: Package Specification; ComponentLink3URL: http://www.onsemi.cn/pub_link/Collateral/NSS12601CF8-D.PDF
footprint ONSC-CHIPFET-8-1206A-03_V (SON, 8-Leads, Body 3.026x1.626mm, Pitch 0.635mm)
pins: 1 C, 2 C, 3 C, 4 B, 5 E, 6 C, 7 C, 8 C
text: 1-3, 6-8

## NSS20101JT1G
designator Q?
20 V, 1 A, Low VCE(sat), NPN Transistor, 3-Pin SC-89, Pb-Free, Tape and Reel; Manufacturer: On Semiconductor; PartNumber: NSS20101JT1G; IC Continuous (A): 1; DatasheetVersion: Rev. 3; PackageVersion: Rev. C, 07/2003; PackageReference: SC-89-3-463C-02; PackageDescription: 3-Pin Small Outline Transistor, Body 1.6 x 0.85 mm, Pitch 0.5 mm; Supplier 1: Digi-Key; Supplier Part Number 1: NSS20101JT1GOSTR-ND; Supplier 2: Digi-Key; Supplier Part Number 2: NSS20101JT1GOSCT-ND; Supplier 3: Digi-Key; Supplier Part Number 3: NSS20101JT1GOSDKR-ND; Supplier 4: Farnell; Supplier Part Number 4: 2317600; Supplier 5: Newark; Supplier Part Number 5: 85W3179; Supplier 6: Mouser; Supplier Part Number 6: 863-NSS20101JT1G; Packing: Tape and Reel; Polarity: NPN; RoHS: TRUE; Mounting Technology: Surface Mount; ComponentLink1Description: Manufacturer URL; ComponentLink1URL: http://www.onsemi.com/; ComponentLink2Description: Datasheet; ComponentLink2URL: http://www.onsemi.com/pub_link/Collateral/NSS20101J-D.PDF; ComponentLink3Description: Package Specification; ComponentLink3URL: http://www.onsemi.com/pub_link/Collateral/463C-02.PDF
footprint ONSC-SC-89-3-463C-02_V (SOT23, 3-Leads, Body 1.6x0.85mm, Pitch 0.5mm)
pins: 1 B, 2 E, 3 C

## NSS20200LT1G
designator Q?
20 V, 4 A, Low VCE(sat), PNP Transistor, 3-Pin SOT-23, Pb-Free, Tape and Reel; Manufacturer: On Semiconductor; PartNumber: NSS20200LT1G; fT Min (MHz): 100; IC Continuous (A): -2; DatasheetVersion: Rev. 4; PackageVersion: Rev. AP, 11/2009; PackageReference: SOT-23-3-318-08; PackageDescription: 3-Pin Small Outline Transistor, Body 2.92 x 1.3 mm, Pitch 0.95 mm; Supplier 1: Digi-Key; Supplier Part Number 1: NSS20200LT1GOSTR-ND; Supplier 2: Digi-Key; Supplier Part Number 2: NSS20200LT1GOSCT-ND; Supplier 3: Digi-Key; Supplier Part Number 3: NSS20200LT1GOSDKR-ND; Supplier 4: Farnell; Supplier Part Number 4: 1887110; Supplier 5: Newark; Supplier Part Number 5: 09R9616; Supplier 6: Mouser; Supplier Part Number 6: 863-NSS20200LT1G; Packing: Tape and Reel; Polarity: PNP; RoHS: TRUE; Mounting Technology: Surface Mount; ComponentLink1Description: Manufacturer URL; ComponentLink1URL: http://www.onsemi.com/; ComponentLink2Description: Datasheet; ComponentLink2URL: http://www.onsemi.com/pub_link/Collateral/NSS20200L-D.PDF; ComponentLink3Description: Package Specification; ComponentLink3URL: http://www.onsemi.cn/pub_link/Collateral/318-08.PDF
footprint ONSC-SOT-23-3-318-08_V (SOT23, 3-Leads, Body 2.92x1.3mm, Pitch 0.95mm)
pins: 1 B, 2 E, 3 C

## NSS20201LT1G
designator Q?
20 V, 4 A, Low VCE(sat), NPN Transistor, 3-Pin SOT-23, Pb-Free, Tape and Reel; Manufacturer: On Semiconductor; PartNumber: NSS20201LT1G; fT Min (MHz): 150; IC Continuous (A): 2; DatasheetVersion: Rev. 6; PackageVersion: Rev. AP, 11/2009; PackageReference: SOT-23-3-318-08; PackageDescription: 3-Pin Small Outline Transistor, Body 2.92 x 1.3 mm, Pitch 0.95 mm; Supplier 1: Digi-Key; Supplier Part Number 1: NSS20201LT1GOSTR-ND; Supplier 2: Digi-Key; Supplier Part Number 2: NSS20201LT1GOSCT-ND; Supplier 3: Digi-Key; Supplier Part Number 3: NSS20201LT1GOSDKR-ND; Supplier 4: Newark; Supplier Part Number 4: 50M4393; Supplier 5: Mouser; Supplier Part Number 5: 863-NSS20201LT1G; Packing: Tape and Reel; Polarity: NPN; RoHS: TRUE; Mounting Technology: Surface Mount; ComponentLink1Description: Manufacturer URL; ComponentLink1URL: http://www.onsemi.com/; ComponentLink2Description: Datasheet; ComponentLink2URL: http://www.onsemi.com/pub_link/Collateral/NSS20201L-D.PDF; ComponentLink3Description: Package Specification; ComponentLink3URL: http://www.onsemi.cn/pub_link/Collateral/318-08.PDF
footprint ONSC-SOT-23-3-318-08_V (SOT23, 3-Leads, Body 2.92x1.3mm, Pitch 0.95mm)
pins: 1 B, 2 E, 3 C

## NSS20201MR6T1G
designator Q?
20 V, 3 A, Low VCE(sat), NPN Transistor, 6-Pin TSOP, Pb-Free, Tape and Reel; Manufacturer: On Semiconductor; PartNumber: NSS20201MR6T1G; fT Min (MHz): 200; IC Continuous (A): 2; DatasheetVersion: Rev. 0; PackageVersion: Rev. N, 02/2005; PackageReference: TSOP-6-318G-02_N; PackageDescription: 6-Pin Small Outline Package, Body 1.5 x 3 mm, Pitch 0.95 mm; Supplier 1: Digi-Key; Supplier Part Number 1: NSS20201MR6T1GOSTR-ND; Supplier 2: Digi-Key; Supplier Part Number 2: NSS20201MR6T1GOSCT-ND; Supplier 3: Digi-Key; Supplier Part Number 3: NSS20201MR6T1GOSDKR-ND; Supplier 4: Mouser; Supplier Part Number 4: 863-NSS20201MR6T1G; Packing: Tape and Reel; Polarity: NPN; RoHS: TRUE; Mounting Technology: Surface Mount; ComponentLink1Description: Manufacturer URL; ComponentLink1URL: http://www.onsemi.com/; ComponentLink2Description: Datasheet; ComponentLink2URL: http://www.onsemi.com/pub_link/Collateral/NSS20201MR6T1G.PDF; ComponentLink3Description: Package Specification; ComponentLink3URL: http://www.onsemi.com/pub_link/Collateral/NSS20201MR6T1G.PDF
footprint ONSC-TSOP-6-318G-02_N_V (TSOP, 6-Leads, Body 3x1.5mm, Pitch 0.95mm)
pins: 1 C, 2 C, 3 B, 4 E, 5 C, 6 C
text: 1, 2, 5, 6

## NSS20300MR6T1G
designator Q?
20 V, 5 A, Low VCE(sat), PNP Transistor, 6-Pin TSOP, Pb-Free, Tape and Reel; Manufacturer: On Semiconductor; PartNumber: NSS20300MR6T1G; fT Min (MHz): 100; IC Continuous (A): -3; DatasheetVersion: Rev. 2; PackageVersion: Rev. T, 02/2008; PackageReference: TSOP-6-318G-02_T; PackageDescription: 6-Pin Small Outline Package, Body 1.5 x 3 mm, Pitch 0.95 mm; Supplier 1: Digi-Key; Supplier Part Number 1: NSS20300MR6T1GOSTR-ND; Supplier 2: Digi-Key; Supplier Part Number 2: NSS20300MR6T1GOSCT-ND; Supplier 3: Digi-Key; Supplier Part Number 3: NSS20300MR6T1GOSDKR-ND; Supplier 4: Mouser; Supplier Part Number 4: 863-NSS20300MR6T1G; Packing: Tape and Reel; Polarity: PNP; RoHS: TRUE; Mounting Technology: Surface Mount; ComponentLink1Description: Manufacturer URL; ComponentLink1URL: http://www.onsemi.com/; ComponentLink2Description: Datasheet; ComponentLink2URL: http://www.onsemi.com/pub_link/Collateral/NSS20300MR6T1G-D.PDF; ComponentLink3Description: Package Specification; ComponentLink3URL: http://www.onsemi.com/pub_link/Collateral/NSS20300MR6T1G-D.PDF
footprint ONSC-TSOP-6-318G-02_T_V (SOP, 6-Leads, Body 3x1.5mm, Pitch 0.95mm)
pins: 1 C, 2 C, 3 B, 4 E, 5 C, 6 C
text: 1, 2, 5, 6

## NSS20500UW3T2G
designator Q?
20 V, 7 A, Low VCE(sat), PNP Transistor, 3-Pin WDFN, Pb-Free, Tape and Reel; Manufacturer: On Semiconductor; PartNumber: NSS20500UW3T2G; fT Min (MHz): 100; IC Continuous (A): -5; DatasheetVersion: Rev. 3; PackageVersion: Rev. O, 09/2005; PackageReference: WDFN-3-506AU-01; PackageDescription: 3-Pin Small Outline No-Lead, Body 2 x 2 mm, Pitch 1.3 mm; Supplier 1: Digi-Key; Supplier Part Number 1: NSS20500UW3T2GOSTR-ND; Supplier 2: Digi-Key; Supplier Part Number 2: NSS20500UW3T2GOSCT-ND; Supplier 3: Digi-Key; Supplier Part Number 3: NSS20500UW3T2GOSDKR-ND; Supplier 4: Mouser; Supplier Part Number 4: 863-NSS20500UW3T2G; Packing: Tape and Reel; Polarity: PNP; RoHS: TRUE; Mounting Technology: Surface Mount; ComponentLink1Description: Manufacturer URL; ComponentLink1URL: http://www.onsemi.com/; ComponentLink2Description: Datasheet; ComponentLink2URL: http://www.onsemi.com/pub_link/Collateral/NSS20500UW3-D.PDF; ComponentLink3Description: Package Specification; ComponentLink3URL: http://www.onsemi.com/pub_link/Collateral/506AU.PDF
footprint ONSC-WDFN-3-506AU-01_V (WDFN, 3-Leads, Body 2 x 2mm, Pitch 1.3mm)
pins: 1 B, 2 E, 3 C

## NSS20500UW3TBG
designator Q?
20 V, 7 A, Low VCE(sat), PNP Transistor, 3-Pin WDFN, Pb-Free, Tape and Reel; Manufacturer: On Semiconductor; PartNumber: NSS20500UW3TBG; fT Min (MHz): 100; IC Continuous (A): -5; DatasheetVersion: Rev. 3; PackageVersion: Rev. O, 09/2005; PackageReference: WDFN-3-506AU-01; PackageDescription: 3-Pin Small Outline No-Lead, Body 2 x 2 mm, Pitch 1.3 mm; Supplier 1: Newark; Supplier Part Number 1: 72W2310; Supplier 2: Mouser; Supplier Part Number 2: 863-NSS20500UW3TBG; Packing: Tape and Reel; Polarity: PNP; RoHS: TRUE; Mounting Technology: Surface Mount; ComponentLink1Description: Manufacturer URL; ComponentLink1URL: http://www.onsemi.com/; ComponentLink2Description: Datasheet; ComponentLink2URL: http://www.onsemi.com/pub_link/Collateral/NSS20500UW3-D.PDF; ComponentLink3Description: Package Specification; ComponentLink3URL: http://www.onsemi.com/pub_link/Collateral/506AU.PDF
footprint ONSC-WDFN-3-506AU-01_V (WDFN, 3-Leads, Body 2 x 2mm, Pitch 1.3mm)
pins: 1 B, 2 E, 3 C

## NSS20501UW3T2G
designator Q?
20 V, 7 A, Low VCE(sat), NPN Transistor, 3-Pin WDFN, Pb-Free, Tape and Reel; Manufacturer: On Semiconductor; PartNumber: NSS20501UW3T2G; fT Min (MHz): 150; IC Continuous (A): 5; DatasheetVersion: Rev. 3; PackageVersion: Rev. O, 09/2005; PackageReference: WDFN-3-506AU-01; PackageDescription: 3-Pin Small Outline No-Lead, Body 2 x 2 mm, Pitch 1.3 mm; Supplier 1: Digi-Key; Supplier Part Number 1: NSS20501UW3T2GOSTR-ND; Supplier 2: Digi-Key; Supplier Part Number 2: NSS20501UW3T2GOSCT-ND; Supplier 3: Digi-Key; Supplier Part Number 3: NSS20501UW3T2GOSDKR-ND; Supplier 4: Mouser; Supplier Part Number 4: 863-NSS20501UW3T2G; Packing: Tape and Reel; Polarity: NPN; RoHS: TRUE; Mounting Technology: Surface Mount; ComponentLink1Description: Manufacturer URL; ComponentLink1URL: http://www.onsemi.com/; ComponentLink2Description: Datasheet; ComponentLink2URL: http://www.onsemi.com/pub_link/Collateral/NSS20501UW3-D.PDF; ComponentLink3Description: Package Specification; ComponentLink3URL: http://www.onsemi.com/pub_link/Collateral/506AU.PDF
footprint ONSC-WDFN-3-506AU-01_V (WDFN, 3-Leads, Body 2 x 2mm, Pitch 1.3mm)
pins: 1 B, 2 E, 3 C

## NSS20501UW3TBG
designator Q?
20 V, 7 A, Low VCE(sat), NPN Transistor, 3-Pin WDFN, Pb-Free, Tape and Reel; Manufacturer: On Semiconductor; PartNumber: NSS20501UW3TBG; fT Min (MHz): 150; IC Continuous (A): 5; DatasheetVersion: Rev. 3; PackageVersion: Rev. O, 09/2005; PackageReference: WDFN-3-506AU-01; PackageDescription: 3-Pin Small Outline No-Lead, Body 2 x 2 mm, Pitch 1.3 mm; Supplier 1: Newark; Supplier Part Number 1: 72W2311; Supplier 2: Mouser; Supplier Part Number 2: 863-NSS20501UW3TBG; Packing: Tape and Reel; Polarity: NPN; RoHS: TRUE; Mounting Technology: Surface Mount; ComponentLink1Description: Manufacturer URL; ComponentLink1URL: http://www.onsemi.com/; ComponentLink2Description: Datasheet; ComponentLink2URL: http://www.onsemi.com/pub_link/Collateral/NSS20501UW3-D.PDF; ComponentLink3Description: Package Specification; ComponentLink3URL: http://www.onsemi.com/pub_link/Collateral/506AU.PDF
footprint ONSC-WDFN-3-506AU-01_V (WDFN, 3-Leads, Body 2 x 2mm, Pitch 1.3mm)
pins: 1 B, 2 E, 3 C

## NSS20601CF8T1G
designator Q?
20 V, 8 A, Low VCE(sat), NPN Transistor, 8-Pin CHIPFET, Pb-Free, Tape and Reel; Manufacturer: On Semiconductor; PartNumber: NSS20601CF8T1G; fT Min (MHz): 140; DatasheetVersion: Rev. 1; PackageVersion: Rev. H, 10/2006; PackageReference: CHIPFET-8-1206A-03; PackageDescription: 8-Pin ChipFET, Body 3.025 x 1.625 mm, Pitch 0.65 mm; Supplier 1: Digi-Key; Supplier Part Number 1: NSS20601CF8T1GOSTR-ND; Supplier 2: Digi-Key; Supplier Part Number 2: NSS20601CF8T1GOSCT-ND; Supplier 3: Digi-Key; Supplier Part Number 3: NSS20601CF8T1GOSDKR-ND; Supplier 4: Newark; Supplier Part Number 4: 50M4395; Supplier 5: Mouser; Supplier Part Number 5: 863-NSS20601CF8T1G; Packing: Tape and Reel; Polarity: NPN; RoHS: TRUE; Mounting Technology: Surface Mount; ComponentLink1Description: Manufacturer URL; ComponentLink1URL: http://www.onsemi.com/; ComponentLink2Description: Datasheet; ComponentLink2URL: http://www.onsemi.com/pub_link/Collateral/NSS20601CF8-D.PDF; ComponentLink3Description: Package Specification; ComponentLink3URL: http://www.onsemi.cn/pub_link/Collateral/NSS12601CF8-D.PDF
footprint ONSC-CHIPFET-8-1206A-03_V (SON, 8-Leads, Body 3.026x1.626mm, Pitch 0.635mm)
pins: 1 C, 2 C, 3 C, 4 B, 5 E, 6 C, 7 C, 8 C
text: 1-3, 6-8

## NSS30070MR6T1G
designator Q?
30 V, 0.7 A, Low VCE(sat), PNP Transistor, 6-Pin SC-74, Pb-Free, Tape and Reel; Manufacturer: On Semiconductor; PartNumber: NSS30070MR6T1G; IC Continuous (A): 0.7; DatasheetVersion: Rev. 1; PackageVersion: Rev. N, 06/2012; PackageReference: SC-74-6-318F-05; PackageDescription: 6-Pin Small Outline Transistor, Body 3 x 1.5 mm, Pitch 0.95 mm; Supplier 1: Digi-Key; Supplier Part Number 1: NSS30070MR6T1GOSTR-ND; Supplier 2: Digi-Key; Supplier Part Number 2: NSS30070MR6T1GOSCT-ND; Supplier 3: Digi-Key; Supplier Part Number 3: NSS30070MR6T1GOSDKR-ND; Supplier 4: Mouser; Supplier Part Number 4: 863-NSS30070MR6T1G; Packing: Tape and Reel; Polarity: PNP; RoHS: TRUE; Mounting Technology: Surface Mount; ComponentLink1Description: Manufacturer URL; ComponentLink1URL: http://www.onsemi.com/; ComponentLink2Description: Datasheet; ComponentLink2URL: http://www.onsemi.com/pub_link/Collateral/NSS30070MR6-D.PDF; ComponentLink3Description: Package Specification; ComponentLink3URL: http://www.onsemi.com/pub_link/Collateral/318F-05.PDF
footprint ONSC-SC-74-6-318F-05_V (SOT23, 6-Leads, Body 3x1.5mm, Pitch 0.95mm)
part A pins: 2 C, 3 E, 5 C, 6 B
part B pins: 1 NC, 4 NC
part A text: 2, 5

## NSS30071MR6T1G
designator Q?
30 V, 0.7 A, Low VCE(sat), NPN Transistor, 6-Pin SC-74, Pb-Free, Tape and Reel; Manufacturer: On Semiconductor; PartNumber: NSS30071MR6T1G; IC Continuous (A): 0.7; DatasheetVersion: Rev. 0; PackageVersion: Rev. N, 06/2012; PackageReference: SC-74-6-318F-05; PackageDescription: 6-Pin Small Outline Transistor, Body 3 x 1.5 mm, Pitch 0.95 mm; Supplier 1: Digi-Key; Supplier Part Number 1: NSS30071MR6T1GOSTR-ND; Supplier 2: Digi-Key; Supplier Part Number 2: NSS30071MR6T1GOSCT-ND; Supplier 3: Mouser; Supplier Part Number 3: 863-NSS30071MR6T1G; Packing: Tape and Reel; Polarity: NPN; RoHS: TRUE; Mounting Technology: Surface Mount; ComponentLink1Description: Manufacturer URL; ComponentLink1URL: http://www.onsemi.com/; ComponentLink2Description: Datasheet; ComponentLink2URL: http://www.onsemi.com/pub_link/Collateral/NSS30071MR6T1G.PDF; ComponentLink3Description: Package Specification; ComponentLink3URL: http://www.onsemi.com/pub_link/Collateral/318F-05.PDF
footprint ONSC-SC-74-6-318F-05_V (SOT23, 6-Leads, Body 3x1.5mm, Pitch 0.95mm)
part A pins: 2 C, 3 E, 5 C, 6 B
part B pins: 1 NC, 4 NC
part A text: 2, 5